# EAGLE library part CD4043B (library masterthesis)
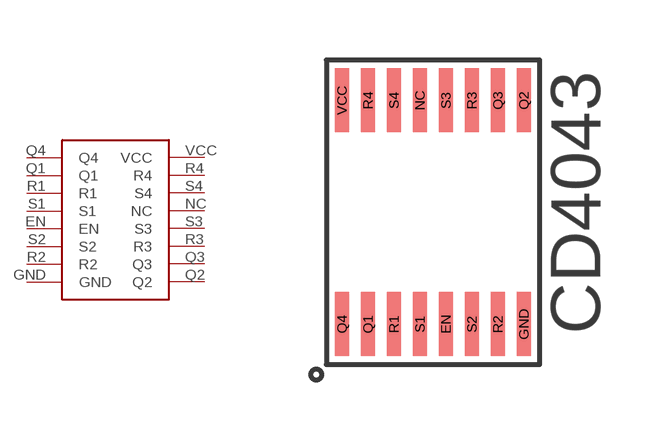
[diagram p1: symbol with the pads of TSSOP16; footprint TSSOP16]

Designator prefix -

## CD4043B  [TSSOP16]
EN  EN
GND  GND
NC  NC
Q1  Q1
Q2  Q2
Q3  Q3
Q4  Q4
R1  R1
R2  R2
R3  R3
R4  R4
S1  S1
S2  S2
S3  S3
S4  S4
VCC  VCC

## Footprint TSSOP16 (pad centres in mm)
smd 0.35 x 1.6: EN 0.325,-2.8; GND 2.275,-2.8; NC -0.325,2.8; Q1 -1.625,-2.8; Q2 2.275,2.8; Q3 1.625,2.8; Q4 -2.275,-2.8; R1 -0.975,-2.8; R2 1.625,-2.8; R3 0.975,2.8; R4 -1.625,2.8; S1 -0.325,-2.8; S2 0.975,-2.8; S3 0.325,2.8; S4 -0.975,2.8; VCC -2.275,2.8